# Altium footprint library circuithub-d9ac76e0ad266f1595c622f3e188f104a8992851.PcbLib: 1 footprints
Each footprint in its own frame and in the unit in brackets; x right, y up, seen from the top. Pads: shape width x height; smd on the part's side, far side on the other; paste and mask are expansions set on the pad; w line width, h text height; cw(c..) or ccw(c..) is an arc to the next point about the centre after c.
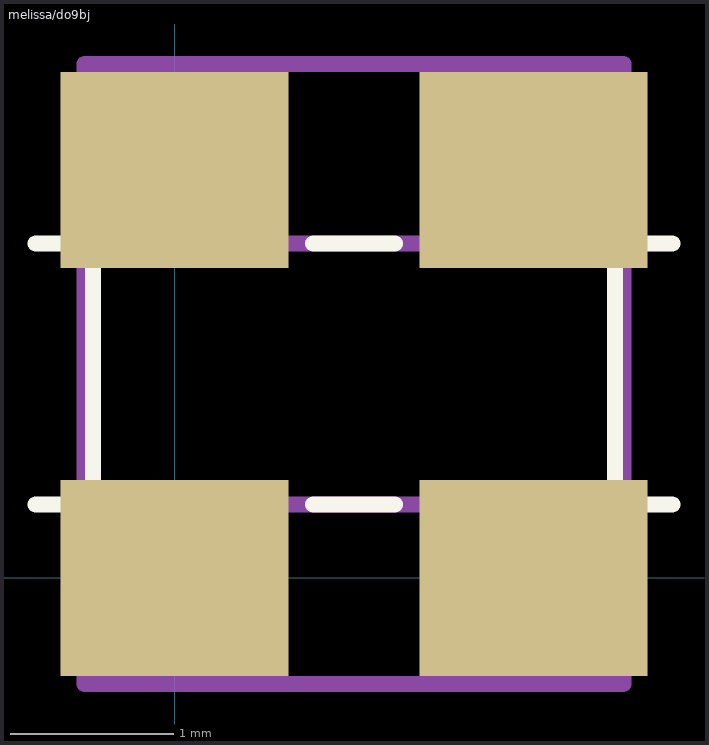
[diagram p0: the footprint, top view; thin cyan lines are the x and y axes]

## melissa/do9bj [mm]
height 1.092
pads (4):
  rect 1.4x1.2 smd: ""(0,0) ""(0,2.5) ""(2.2,0) ""(2.2,2.5)
Top Overlay:
  lines w0.1: -0.85,0.45 -0.5,0.45 -0.5,2.05 -0.85,2.05 ; 0.85,0.45 1.35,0.45 ; 0.85,2.05 1.35,2.05 ; 3.05,0.45 2.7,0.45 2.7,2.05 3.05,2.05
Mechanical 13:
  lines w0.1: -0.5,0.45 2.7,0.45 2.7,2.05 -0.5,2.05 -0.5,0.45
Mechanical 15:
  lines w0.1: -0.55,-0.65 2.75,-0.65 2.75,3.15 -0.55,3.15 -0.55,-0.65